# EAGLE library part HRF-SW1000 (library rfswitch_honeywell)
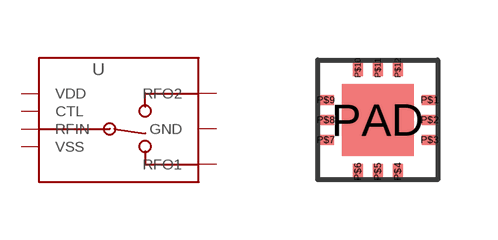
[diagram p0: symbol with the pads of LPCC12; footprint LPCC12]

Designator prefix -

## HRF-SW1000  [LPCC12]
P$1  GND
P$2  RFO2
P$3  GND1
P$4  VDD
P$5  CTL
P$6  VSS
P$7  GND5
P$8  RFO1
P$9  GND4
P$10  GND3
P$11  RFIN
P$12  GND2
PAD  GND6

## Footprint LPCC12 (pad centres in mm)
smd 0.4 x 0.25: P$1 1.3,0.5; P$2 1.3,0; P$3 1.3,-0.5; P$7 -1.3,-0.5; P$8 -1.3,0; P$9 -1.3,0.5
smd 0.25 x 0.4: P$4 0.5,-1.3; P$5 0,-1.3; P$6 -0.5,-1.3; P$10 -0.5,1.3; P$11 0,1.3; P$12 0.5,1.3
smd 1.8 x 1.8: PAD 0,0